# EAGLE library part SIL8 (library mb_ics)
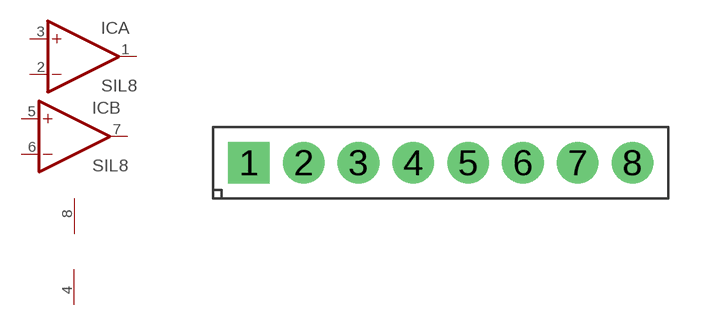
[diagram p30: symbol with the pads of SIL08; footprint SIL08]

Designator prefix IC; gates A=OPAMP B=OPAMP G$3=PWR+-

## SIL8  [SIL08]
1  A:OUT  out
2  A:-IN  in
3  A:+IN  in
4  G$3:V-  pwr
5  B:+IN  in
6  B:-IN  in
7  B:OUT  out
8  G$3:V+  pwr

## Footprint SIL08 (pad centres in mm)
drill 1 pad 1.93 square: 1 0,0
drill 1 pad 1.93: 2 2.54,0; 3 5.08,0; 4 7.62,0; 5 10.16,0; 6 12.7,0; 7 15.24,0; 8 17.78,0